# Altium schematic symbol library OSP_DJB_JIG.SchLib: 7 symbols
Pins are listed as number, name and electrical type; pins without a type are passive.

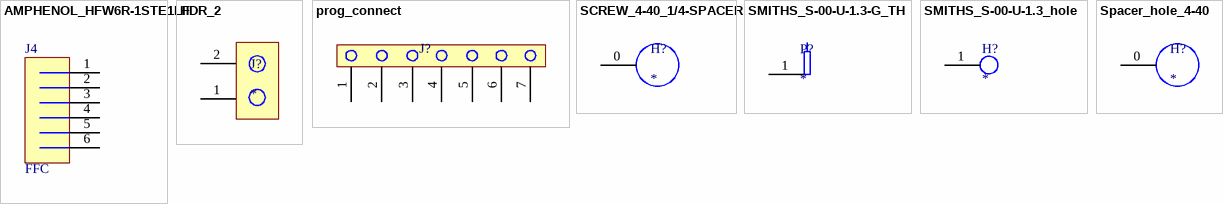
[diagram p0: symbols AMPHENOL_HFW6R-1STE1LF to Spacer_hole_4-40]

## AMPHENOL_HFW6R-1STE1LF
designator J4, comment FFC
Amphenol HFW6R-1STE1LF 6-pin flat flexible cable connector
footprint AMPHENOL_HFW6R-1STE1LF (Amphenol HFW6R-1STE1LF 6-pin flat flexible cable connector)
pins: 1, 2, 3, 4, 5, 6

## HDR_2
designator J?
2-pin 0.1" header
footprint 2-POS_HEADER (2 pin header 2.54 mm pitch)
pins: 1, 2

## prog_connect
designator J?
7-pos male pin header, 2.54mm pitch
footprint 7-pos_header (7-pos male pin header, 2.54mm pitch)
pins: 1 16, 2 17, 3 18, 4 19, 5 20, 6 21, 7

## SCREW_4-40_1/4-SPACER
designator H?
Hole for 4-40 screw with 1/4" spacer
footprint SCREW_4-40_1/4-SPACER (Hole for 4-40 screw with 1/4" spacer)
pins: 0

## SMITHS_S-00-U-1.3-G_TH
designator P?
Smiths Interconnect / IDI S-00-U-1.3-G Pogo Pin 0.99mm Centers 16.7mm Long 2.8mm Travel, Through Hole Mount
footprint SMITHS_S-00-U-1.3-G_TH (Smiths Interconnect / IDI S-00-U-1.3-G Pogo Pin, Through-Hole Mount)
pins: 1

## SMITHS_S-00-U-1.3_hole
designator H?
Smiths Interconnect / IDI S-00-U-1.3-G Pogo Pin 0.99mm Centers 16.7mm Long 2.8mm Travel, Mid Mount
footprint SMITHS_S-00-U-1.3_hole (Smiths Interconnect / IDI S-00-U-1.3-G Pogo Pin 0.99mm Centers 16.7mm Long 2.8mm Travel, Mid Mount)
pins: 1

## Spacer_hole_4-40
designator H?
Spacer hole w/o screw
footprint SPACER_HOLE_4-40 (Hole for 4-40 screw)
pins: 0